# EAGLE library part POT_PANASONIC (library halcyonmod_Potentiometers)
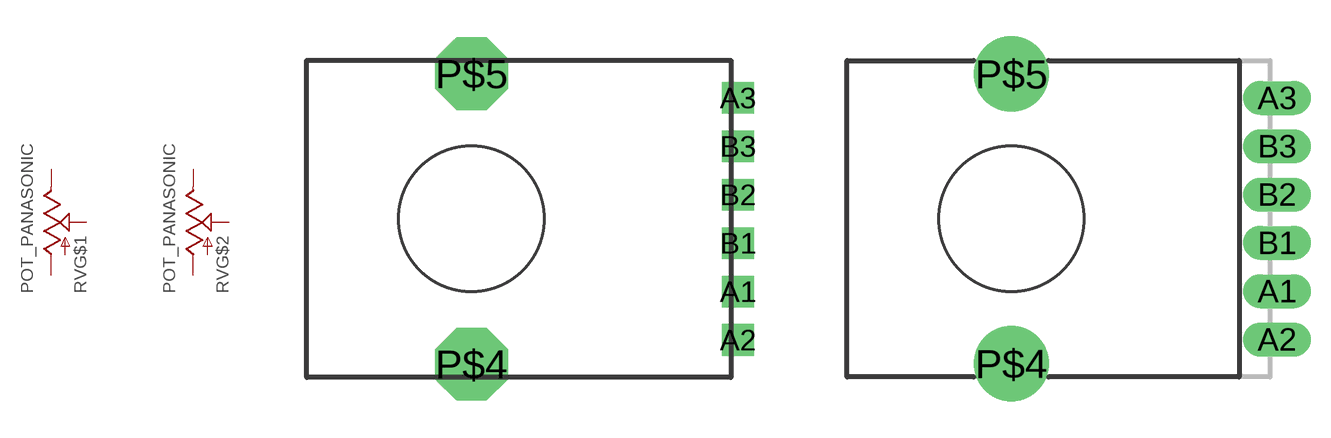
[diagram p4: symbol with the pads of POT_PANASONIC_DUAL_VERT; footprints POT_PANASONIC_DUAL_VERT, POT_PANASONIC_DUAL_VERT_KIT]

Designator prefix RV; gates G$1=POT-3 G$2=POT-3

## POT_PANASONIC" (DIST: digikey; DIST_ID: P2A5103-ND; PROD_ID: RES-11897)  [POT_PANASONIC_DUAL_VERT]
A1  G$1:E  pas
A2  G$1:S  pas
A3  G$1:A  pas
B1  G$2:E  pas
B2  G$2:S  pas
B3  G$2:A  pas

## POT_PANASONIC (DIST: digikey; DIST_ID: P2A5103-ND; PROD_ID: RES-11897)  [POT_PANASONIC_DUAL_VERT_KIT]
Pads as for POT_PANASONIC_DUAL_VERT

## Footprint POT_PANASONIC_DUAL_VERT (pad centres in mm)
Panasonic Dual PCB mount pot. Fits EVJY-00, EVJY-80, EVJY-81, EVJY-10, etc
drill 0.8 square: A1 11,-3; A2 11,-5; A3 11,5; B1 11,-1; B2 11,1; B3 11,3
drill 2 octagon: P$4 0,-6; P$5 0,6

## Footprint POT_PANASONIC_DUAL_VERT_KIT (pad centres in mm)
drill 0.9 long: A1 11,-3; A2 11,-5; A3 11,5; B1 11,-1; B2 11,1; B3 11,3
drill 2.1: P$4 0,-6; P$5 0,6